# Altium schematic symbol library TAJP106K010RNJ.SchLib: 1 symbol
Pins are listed as number, name and electrical type; pins without a type are passive.

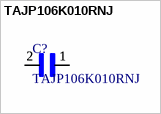
[diagram p0: symbol TAJP106K010RNJ]

## TAJP106K010RNJ
designator C?
TANTALUM CAPACITOR, 10UF, 10V, 0805 10%,; Package: None; Price: None; Value: 10uF; MP: TAJP106K010RNJ; Availability: Unavailable; Parameter 1: *
footprint CAPC2012X140N
pins: 1, 1, 2, 2